# Altium schematic symbol library dvrk-s-pwm.SCHLIB: 50 symbols
Pins are listed as number, name and electrical type; pins without a type are passive.

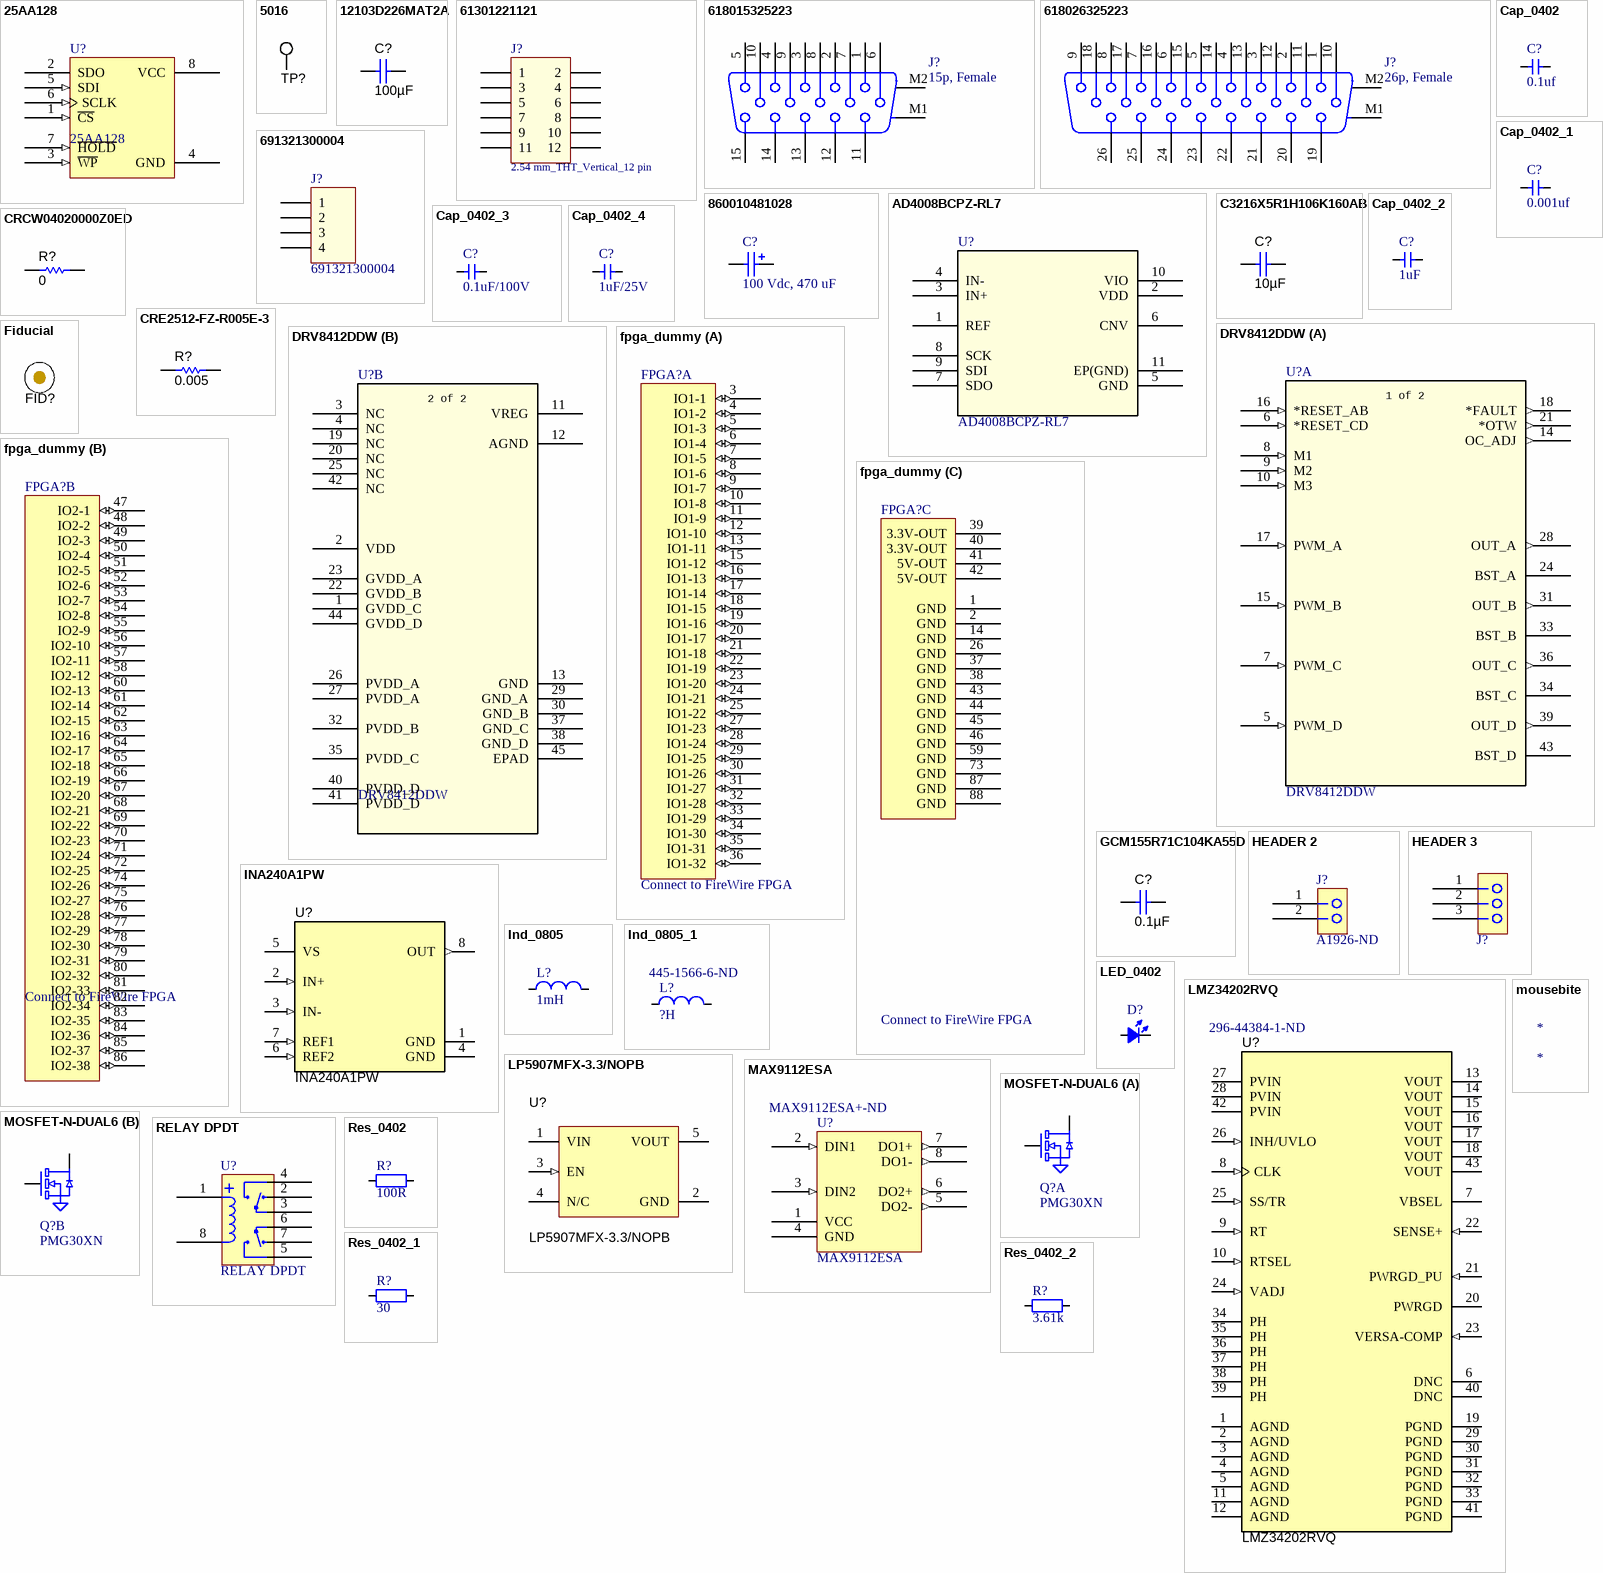
[diagram p0: symbols 25AA128 to Res_0402_2]

## 25AA128
designator U?
footprint TSSOP-8
footprint MSOP-8
pins: 1 ~{CS} (in), 2 SDO (hiz), 3 ~{WP} (in), 4 GND (power), 5 SDI (in), 6 SCLK (in), 7 ~{HOLD} (in), 8 VCC (power)
1 alternate drawing of the same symbol

## 5016
designator TP?  (value not drawn)
Test Point, Compact, SMT; Manufacturer: Keystone; CompType: Test Point Loop; SymbolVersion: 2008-04-04; PartNumber: 5016; PackageReference: Testpoint_Keystone_Compact; RoHS: Y; MountType: SMT; ComponentLink1Description: Datasheet URL; ComponentLink1URL: http://www.keyelco.com/userAssets/store/files/5016.PDF; Publisher: Texas Instruments; LatestRevisionDate: 2016-09-14; Supplier 1: Digi-Key; Supplier Part Number 1: 36-5016TR-ND; Supplier 2: Mouser; Supplier Part Number 2: 534-5016
footprint Testpoint_Keystone_Compact
pins: 1

## 12103D226MAT2A
designator C?, comment ValueDisplayed: 100µF  (hidden comment: GRM32ER61A107ME20K)
CAP CER 100UF 10V X5R 1210; Manufacturer: AVX; Polarized: N; CompType: Capacitor; Value: 22uF; U/M: EA; Cap_F: 0.000022; Tolerance_%: 20; Value1: Unknown; VDC_V: 25; Value2: 25V; TaMin_C: -55; TaMax_C: 85; Cap_Case: 1210; SizeArea_mm2: 8; SizeAreaWB_mm2: 14.7; SizeX_mm: 3.2; SizeY_mm: 2.5; SizeZ_mm: 2.8; AEC Category: Q200; SymbolVersion: 2008-07-09; PartNumber: GRM32ER61A107ME20K; PackageReference: 1210; RoHS: Y; MountType: SMT; Technology: Ceramic; TempCo: X5R; Published: 2008-06-19; Publisher: Texas Instruments; LatestRevisionDate: 2016-12-20; ComponentLink1Description: Datasheet link; ComponentLink1URL: http://datasheets.avx.com/cx5r.pdf; Supplier 1: Mouser; Supplier Part Number 1: 581-12103D226MAT2A; Supplier 2: Farnell; Supplier Part Number 2: 1833830; Supplier 3: Newark; Supplier Part Number 3: 96M1536; AEC Qualified: N; AEC Grade: N/A
signal-integrity model Cap
simulation model Cap
footprint 1210_280 (SMD, 2-Leads, Body 3.6x2.8mm, Height 2.8mm)
pins: 1, 2

## 61301221121
designator J?, comment 2.54 mm_THT_Vertical_12 pin
Pin Header WR-PHD, pitch 2.54 mm, THT, Vertical, dual row, 12 pin; Part Number: 61301221121; Rated Current: 3 A; Pin Number: 12; Pitch: 2.54 mm; Working Voltage: 250 VAC; Contact Resistance: 20 mOhm; Insulation Resistance: >1000 MOhm; ComponentLink1Description: Manufacturer; ComponentLink1URL: http://www.we-online.de; ComponentLink2Description: Datasheet; ComponentLink2URL: http://katalog.we-online.de/em/datasheet/6130xx21121.pdf; Published Date: Jan. 2018; Publisher: Wurth Elektronik; Operating Temperature: -40 to 105 degC; Mounting Technology: THT; Row Number: Dual; Orientation: Vertical
footprint 61301221121
pins: 1, 2, 3, 4, 5, 6, 7, 8, 9, 10, 11, 12

## 618015325223
designator J?, comment 15p, Female
WR-DSUB Female High Density Angled PCB Connector without Hex Screw, 15p; PartNumber: 618015325223; PinNumber: 15; Published: June 2016; Publisher: Wurth Elektronik; ComponentLink1Description: Manufacturer; ComponentLink1URL: http://www.we-online.de; ComponentLink2Description: Datasheet; ComponentLink2URL: http://katalog.we-online.de/em/datasheet/6180xx325223.pdf
footprint 618015325223 (15 pins, right angled with Rivet)
pins: 1, 2, 3, 4, 5, 6, 7, 8, 9, 10, 11, 12, 13, 14, 15, M1, M2

## 618026325223
designator J?, comment 26p, Female
WR-DSUB Female High Density Angled PCB Connector without Hex Screw, 26p; PartNumber: 618026325223; PinNumber: 26; Published: June 2016; Publisher: Wurth Elektronik; ComponentLink1Description: Manufacturer; ComponentLink1URL: http://www.we-online.de; ComponentLink2Description: Datasheet; ComponentLink2URL: http://katalog.we-online.de/em/datasheet/6180xx325223.pdf; system: connector
footprint 618026325223 (26 pins, right angled with Rivet)
pins: 1, 2, 3, 4, 5, 6, 7, 8, 9, 10, 11, 12, 13, 14, 15, 16, 17, 18, 19, 20, 21, 22, 23, 24, 25, 26, M1, M2

## 691321300004
designator J?
WR-TBL Serie 321 - 3.81 mm Vertical PCB Header, 04p; Pitch: 3.81 mm; Published Date: Jan 2017; Publisher: Wurth Elektronik; ComponentLink1Description: Manufacturer; ComponentLink1URL: http://www.we-online.de; ComponentLink2Description: Datasheet; ComponentLink2URL: http://katalog.we-online.de/em/datasheet/6913213000xx.pdf; Part Number: 691321300004; Pin Number: 04p
footprint 691321300004
pins: 1, 2, 3, 4

## 860010481028
designator C?, comment 100 Vdc, 470 uF
Aluminum Electrolytic Capacitors, 18x35.5mm; Part Number: 860010481028; Rated Voltage: 100 V; Value: 470 uF; ComponentLink1Description: Manufacturer; ComponentLink1URL: http://www.we-online.de; ComponentLink2Description: Datasheet; ComponentLink2URL: http://katalog.we-online.de/pbs/datasheet/860010481028.pdf; Published Date: Sep. 2017; Publisher: Wurth Elektronik; Size: 18x35.5mm; Life Cycle: 2000h; Operating Temperature: -40 °C up to +85 °C
footprint WCAP-ATG8_18x35.5x7.5
pins: 1 P, 2 N

## AD4008BCPZ-RL7
designator U?
16-Bit, 2 MSPS/1 MSPS/500 kSPS, / Precision, Pseudo Differential, SAR ADCs; Value: Value; Type: Type; RefDes: RefDes
footprint CP_10_9
pins: 1 REF, 2 VDD, 3 IN+, 4 IN-, 5 GND, 6 CNV, 7 SDO, 8 SCK, 9 SDI, 10 VIO, 11 EP(GND)

## C3216X5R1H106K160AB
designator C?  ValueDisplayed: 10µF  (hidden comment: C3216X5R1H106K160AB)
CAP, CERM, 10 µF, 50 V, +/- 10%, X5R, 1206; Manufacturer: TDK; Polarized: N; CompType: Capacitor; Value: 10uF; U/M: EA; Cap_F: 0.00001; Tolerance_%: 10; ESR_ohm: 0.002229; Value1: 0.002229 ohm; VDC_V: 50; Value2: 50V; IRMS_A: 4.85932; TaMin_C: -55; TaMax_C: 85; Cap_Case: 1206_180; SizeArea_mm2: 5.12; SizeAreaWB_mm2: 10.92; SizeX_mm: 3.2; SizeY_mm: 1.6; SizeZ_mm: 1.8; AEC Category: Q200; SymbolVersion: 2008-07-09; PartNumber: C3216X5R1H106K160AB; PackageReference: 1206; RoHS: Y; MountType: SMT; Technology: Ceramic; TempCo: X5R; Published: 2008-06-19; Publisher: Texas Instruments; LatestRevisionDate: 2016-12-01; ComponentLink1Description: Datasheet link; ComponentLink1URL: https://product.tdk.com/en/search/capacitor/ceramic/mlcc/info?part_no=C3216X5R1H106K160AB; Supplier 1: Digi-Key; Supplier Part Number 1: 445-5998-1-ND; Supplier 2: Mouser; Supplier Part Number 2: 810-C3216X5R1H106K160AB; AEC Qualified: N; AEC Grade: N/A
signal-integrity model Cap
simulation model Cap
footprint 1206_180
footprint 1206_180M
footprint 1206_180L
pins: 1, 2

## Cap_0402
designator C?  value 0.1uf  (hidden comment: Cap_0402)
Capacitor
footprint CAP_0402
pins: 1, 2

## Cap_0402_1
designator C?, comment value 0.001uf  (hidden comment: Cap_0402)
Capacitor
footprint CAP_0402
pins: 1, 2

## Cap_0402_2
designator C?, comment value 1uF  (hidden comment: Cap_0402)
Capacitor
footprint CAP_0402
pins: 1, 2

## Cap_0402_3
designator C?, comment value 0.1uF/100V  (hidden comment: Cap_0402)
Capacitor
footprint CAP_0402
pins: 1, 2

## Cap_0402_4
designator C?, comment value 1uF/25V  (hidden comment: Cap_0402)
Capacitor
footprint CAP_0402
pins: 1, 2

## CRCW04020000Z0ED
designator R?  ValueDisplayed: 0  (hidden comment: CRCW04020000Z0ED)
RES, 0, 5%, 0.063 W, 0402; Manufacturer: Vishay-Dale; CompType: Resistor; Value: 0; Value_Code: 0000; Tolerance_%: 5; Power_W: 0.063; Value2: 0.063W; VDC_V: 50; TempCo: 200 ppm/C; SizeArea_mm2: 0.5; SizeX_mm: 1; SizeZ_mm: 0.6; EIA_Code: E24; U/M: EA; AEC Category: Q200; SymbolVersion: 2009-05-29; PartNumber: CRCW04020000Z0ED; PackageReference: 0402; RoHS: Y; Res_ohm: 0; Value1: 5%; MountType: SMT; Technology: Thick Film; SizeY_mm: 0.5; Published: 2008-06-26; Publisher: Texas Instruments; LatestRevisionDate: 2016-07-14; ComponentLink1Description: Datasheet link; ComponentLink1URL: http://www.vishay.com/docs/20035/dcrcwe3.pdf; Supplier 1: Digi-Key; Supplier Part Number 1: 541-0.0JCT-ND; Supplier 2: Mouser; Supplier Part Number 2: 71-CRCW0402-0-E3; Supplier 3: Farnell; Supplier Part Number 3: 1469661; AEC Qualified: ?
signal-integrity model Resistor
simulation model Resistor
footprint 0402
footprint 0402M
footprint 0402L
footprint 0402S
footprint CAP_0402
footprint RES_0402
pins: 1, 2

## CRE2512-FZ-R005E-3
designator R?  ValueDisplayed: 0.005  (hidden comment: CRE2512-FZ-R005E-3)
RES, 0.005, 1%, 3 W, AEC-Q200 Grade 0, 2512; Manufacturer: Bourns; CompType: Resistor; Value: 0.005; Value_Code: 5L000; Tolerance_%: 1; Power_W: 3; Value2: 3W; TempCo: 75 ppm/C; EIA_Code: E96; U/M: EA; AEC Category: Q200; AEC Qualified: Y; AEC Grade: 0; SizeArea_mm2: 21.6075; SizeX_mm: 6.45; SizeY_mm: 3.35; SizeZ_mm: 0.9; SymbolVersion: 2009-05-29; PartNumber: CRE2512-FZ-R005E-3; PackageReference: 2512; RoHS: Y; Res_ohm: 0.005; Value1: 1%; MountType: SMT; Technology: Metal Film; Published: 2008-06-26; Publisher: Texas Instruments; LatestRevisionDate: 2016-06-02; ComponentLink1Description: Datasheet link; ComponentLink1URL: http://www.bourns.com/docs/Product-Datasheets/CRE.pdf; Supplier 1: Digi-Key; Supplier Part Number 1: CRE2512-FZ-R005E-3CT-ND; Supplier 2: Mouser; Supplier Part Number 2: 652-CRE2512FZR005E-3; Supplier 3: Farnell; Supplier Part Number 3: 2434014
signal-integrity model Resistor
simulation model Resistor
footprint CRE2512-R5_R9
pins: 1, 2

## DRV8412DDW
designator U?
Dual Full-Bridge PWM Motor Driver; Manufacturer: Texas Instruments; Built_By: EMA_UL_Team; Manufacturer_Part_Number: DRV8412DDW; Vendor: Texas Instruments; RefDes: RefDes; Type: DEV; Value: Value
footprint DDW44-7600X3850TP_N (TSOP, 44-Leads, Body 14x6.1mm, Pitch 0.635mm, Thermal Pad 8.3x4.2mm, IPC Medium Density)
footprint DDW44-7600X3850TP_M (TSOP, 44-Leads, Body 14x6.1mm, Pitch 0.635mm, Thermal Pad 8.3x4.2mm, IPC Low Density)
footprint DDW44-7600X3850TP_L (TSOP, 44-Leads, Body 14x6.1mm, Pitch 0.635mm, Thermal Pad 8.3x4.2mm, IPC High Density)
part A pins: 5 PWM_D (in), 6 *RESET_CD (in), 7 PWM_C (in), 8 M1 (in), 9 M2 (in), 10 M3 (in), 14 OC_ADJ (out), 15 PWM_B (in), 16 *RESET_AB (in), 17 PWM_A (in), 18 *FAULT (out), 21 *OTW (out), 24 BST_A (power), 28 OUT_A (out), 31 OUT_B (out), 33 BST_B (power), 34 BST_C (power), 36 OUT_C (out), 39 OUT_D (out), 43 BST_D (power)
part B pins: 1 GVDD_C (power), 2 VDD (power), 3 NC, 4 NC, 11 VREG (power), 12 AGND (power), 13 GND (power), 19 NC, 20 NC, 22 GVDD_B (power), 23 GVDD_A (power), 25 NC, 26 PVDD_A (power), 27 PVDD_A (power), 29 GND_A (power), 30 GND_B (power), 32 PVDD_B (power), 35 PVDD_C (power), 37 GND_C (power), 38 GND_D (power), 40 PVDD_D (power), 41 PVDD_D (power), 42 NC, 44 GVDD_D (power), 45 EPAD
part A text: 1 of 2
part B text: 2 of 2

## Fiducial
designator FID?  (value not drawn)
Fiducial mark.  There is nothing to buy or mount.; SymbolCreator: codlsc; SymbolVersion: 2009-11-4; CompType: Fiducial; Publisher: National Semiconductor; LatestRevisionDate: 2011-09-19; LatestRevisionNote: Added Alternate PartNumber and Alternate Manufacturer parameters to appropriate components.; ComponentLink1URL: Paste URL for datasheet here; Manufacturer: N/A; MountType: N/A; PackageReference: Fiducial; PartNumber: N/A; ClassName: FiducialMark
footprint Fiducial10-30
footprint Fiducial10-20
footprint Fiducial15-30
footprint Fiducial20-40
footprint Fiducial6.4-20
footprint Fiducial10-30_TopLayerKeepOutOnly
footprint Fiducial6.4-20_TopLayerKeepOutOnly
footprint Fiducial10-20_TopLayerKeepOutOnly
footprint Fiducial15-30_TopLayerKeepOutOnly
footprint Fiducial20-40_TopLayerKeepOutOnly

## fpga_dummy
designator FPGA?, comment Connect to FireWire FPGA
ClassName: noclearancecheck
footprint FPGA-dummy
part A pins: 3 IO1-1 (io), 4 IO1-2 (io), 5 IO1-3 (io), 6 IO1-4 (io), 7 IO1-5 (io), 8 IO1-6 (io), 9 IO1-7 (io), 10 IO1-8 (io), 11 IO1-9 (io), 12 IO1-10 (io), 13 IO1-11 (io), 15 IO1-12 (io), 16 IO1-13 (io), 17 IO1-14 (io), 18 IO1-15 (io), 19 IO1-16 (io), 20 IO1-17 (io), 21 IO1-18 (io), 22 IO1-19 (io), 23 IO1-20 (io), 24 IO1-21 (io), 25 IO1-22 (io), 27 IO1-23 (io), 28 IO1-24 (io), 29 IO1-25 (io), 30 IO1-26 (io), 31 IO1-27 (io), 32 IO1-28 (io), 33 IO1-29 (io), 34 IO1-30 (io), 35 IO1-31 (io), 36 IO1-32 (io)
part B pins: 47 IO2-1 (io), 48 IO2-2 (io), 49 IO2-3 (io), 50 IO2-4 (io), 51 IO2-5 (io), 52 IO2-6 (io), 53 IO2-7 (io), 54 IO2-8 (io), 55 IO2-9 (io), 56 IO2-10 (io), 57 IO2-11 (io), 58 IO2-12 (io), 60 IO2-13 (io), 61 IO2-14 (io), 62 IO2-15 (io), 63 IO2-16 (io), 64 IO2-17 (io), 65 IO2-18 (io), 66 IO2-19 (io), 67 IO2-20 (io), 68 IO2-21 (io), 69 IO2-22 (io), 70 IO2-23 (io), 71 IO2-24 (io), 72 IO2-25 (io), 74 IO2-26 (io), 75 IO2-27 (io), 76 IO2-28 (io), 77 IO2-29 (io), 78 IO2-30 (io), 79 IO2-31 (io), 80 IO2-32 (io), 81 IO2-33 (io), 82 IO2-34 (io), 83 IO2-35 (io), 84 IO2-36 (io), 85 IO2-37 (io), 86 IO2-38 (io)
part C pins: 1 GND (power), 2 GND (power), 14 GND (power), 26 GND (power), 37 GND (power), 38 GND (power), 39 3.3V-OUT (power), 40 3.3V-OUT (power), 41 5V-OUT (power), 42 5V-OUT (power), 43 GND (power), 44 GND (power), 45 GND (power), 46 GND (power), 59 GND (power), 73 GND (power), 87 GND (power), 88 GND (power)

## GCM155R71C104KA55D
designator C?  ValueDisplayed: 0.1µF  (hidden comment: GCM155R71C104KA55D)
CAP, CERM, 0.1 µF, 16 V, +/- 10%, X7R, 0402; Manufacturer: MuRata; Polarized: N; CompType: Capacitor; Value: 0.1uF; U/M: EA; Cap_F: 0.0000001; Tolerance_%: 10; Value1: Unknown; VDC_V: 16; Value2: 16V; TaMin_C: -55; TaMax_C: 125; Cap_Case: 0402; AEC Category: Q200; SymbolVersion: 2008-07-09; PartNumber: GCM155R71C104KA55D; PackageReference: 0402; RoHS: Y; MountType: SMT; Technology: Ceramic; TempCo: X7R; Published: 2008-06-19; Publisher: Texas Instruments; LatestRevisionDate: 2016-03-12; ComponentLink1Description: Datasheet link; ComponentLink1URL: http://psearch.murata.com/capacitor/product/GCM155R71C104KA55%23.pdf; Supplier 1: Digi-Key; Supplier Part Number 1: 490-4759-2-ND; AEC Qualified: ?
signal-integrity model Cap
simulation model Cap
footprint 0402
footprint 0402M
footprint 0402L
footprint 0402S
footprint CAP_0402
pins: 1, 2

## HEADER 2
designator J?, comment Supplier Part Number 1: A1926-ND  (hidden comment: Substitute with tyco 640457-2)
Manufacturer: TE Connectivity; system: connector; Current Rating: 5A; Voltage Rating: 250V; Number of Contacts: 2; Plating Thickness: 3.81um; Shrouded: No (Without); Contact Resistance: 6mR; Gender: Male; Supplier 1: Digi-Key; Manufacturer Part Number: 640457-2; Stock 1: 10901; Pricing 1: 1=0.14, 10=0.127, 100=0.0783, 500=0.06482, 1000=0.05672, 5000=0.04862, 10000=0.04727 (USD); Mount: Through Hole; Colour: White,Natural,Beige; Contact Plating: Tin; Min Operating Temperature: -67°C; Max Operating Temperature: 221°C; Packaging: Bulk; Fastening Type: Friction; Contact Gender: Male; Termination: Solder; Orientation: Right Angle; Contact Current Rating: 5A; Max Voltage Rating (AC): 250V; Contact Mating Length: 0.295inch; Termination Post Length: 3.56mm; Depth: 11.04mm; Radiation Hardening: No; Flammability Rating: UL94 V-0; ELV: Compliant; Lead Free: Lead Free; REACH SVHC: Unknown; ComponentLink1URL: https://datasheet.ciiva.com/709/eng-cd-640457-s2-709682.pdf; ComponentLink1Description: https://datasheet.ciiva.com/709/eng-cd-640457-s2-709682.pdf; ComponentLink2URL: https://datasheet.ciiva.com/14640/70083657-14640359.pdf; ComponentLink2Description: https://datasheet.ciiva.com/14640/70083657-14640359.pdf; ComponentLink3URL: https://datasheet.ciiva.com/3118/eng-ds-82056-mta-0608-3118505.pdf; ComponentLink3Description: https://datasheet.ciiva.com/3118/eng-ds-82056-mta-0608-3118505.pdf; ComponentLink4URL: https://datasheet.ciiva.com/11750/0900766b806a960f-11750281.pdf; ComponentLink4Description: https://datasheet.ciiva.com/11750/0900766b806a960f-11750281.pdf; ComponentLink5URL: https://datasheet.ciiva.com/30192/8852eng-ds-82056-mta-0608-30192537.pdf; ComponentLink5Description: https://datasheet.ciiva.com/30192/8852eng-ds-82056-mta-0608-30192537.pdf; ComponentLink6URL: https://datasheet.ciiva.com/16395/eng-ds-82056-mta-0608-16395963.pdf; ComponentLink6Description: https://datasheet.ciiva.com/16395/eng-ds-82056-mta-0608-16395963.pdf; ComponentLink7URL: https://datasheet.ciiva.com/25618/0900766b80e9e25b-25618125.pdf; ComponentLink7Description: https://datasheet.ciiva.com/25618/0900766b80e9e25b-25618125.pdf; ComponentLink8URL: https://datasheet.ciiva.com/16505/eng-ds-82056-mta-0608-16505423.pdf; ComponentLink8Description: https://datasheet.ciiva.com/16505/eng-ds-82056-mta-0608-16505423.pdf; ComponentLink9URL: https://datasheet.ciiva.com/16656/eng-ds-82056-mta-0608-16656527.pdf; ComponentLink9Description: https://datasheet.ciiva.com/16656/eng-ds-82056-mta-0608-16656527.pdf
footprint HDR-2x1-100 (Footprint not found)
pins: 1, 2

## HEADER 3
designator J?  (value not drawn)
footprint HDR-3x1-100 (Footprint not found)
pins: 1, 2, 3

## INA240A1PW
designator U?
Wide Common-Mode Range, Voltage Output, High or Low-Side Bi-Directional Zero-Drift Current Shunt Monitor, PW0008A; Manufacturer: Texas Instruments; SymbolCreator: Altium; CompType: IC; U/M: EA; SymbolVersion: 2016-01-07; PartNumber: INA240A1PW; PackageReference: PW0008A; MountType: SMT; ComponentLink1Description: Datasheet Link; ComponentLink1URL: https://sps06.itg.ti.com/sites/KMS/crossdivteams/altium/docs/ComponentDatasheets/INA240 Prelim DS - 9-15-15.pdf; Publisher: Texas Instruments; LatestRevisionDate: 2016-03-14; Alternate Manufacturer: Texas Instruments
footprint PW0008A_N (SOP, 8-Leads, Body 4.5x3.1mm, Pitch 0.65mm, IPC Medium Density)
footprint PW0008A_M
footprint PW0008A_L
pins: 1 GND (power), 2 IN+ (in), 3 IN- (in), 4 GND (power), 5 VS (power), 6 REF2 (in), 7 REF1 (in), 8 OUT (out)

## Ind_0805
designator L?  value 1mH
Inductor
footprint 2300LL
pins: 1, 2

## Ind_0805_1
designator L?, comment value ?H  Supplier Part Number 1: 445-1566-6-ND  (hidden comment: Ind_0805)
Inductor; Manufacturer: TDK; Manufacturer Part Number: MPZ2012S300AT000; Core Material: Ferrite; Impedance: 30R; Current Rating: 6A; DC Resistance (DCR): 10mR; Supplier 1: Digi-Key; Stock 1: 117704; Pricing 1: 1=0.11, 10=0.091, 25=0.0704, 50=0.0584, 100=0.0503, 250=0.04028, 500=0.03624, 1000=0.0302 (USD); Mount: Surface Mount; Case/Package: 0805; Number of Pins: 3; Case Code (Metric): 2012; Case Code (Imperial): 0805; Packaging: Tape and Reel; Package Quantity: 1; Max DC Current: 6A; Length: 0.079inch; Height: 0.041inch; Width: 0.049inch; Depth: 1.25mm; REACH SVHC: No SVHC; Lead Free: Lead Free; ComponentLink1URL: https://datasheet.ciiva.com/46381/1750041-46381644.pdf; ComponentLink1Description: https://datasheet.ciiva.com/46381/1750041-46381644.pdf; ComponentLink2URL: https://datasheet.ciiva.com/48682/beads-commercial-power-mpz-en-48682508.pdf; ComponentLink2Description: https://datasheet.ciiva.com/48682/beads-commercial-power-mpz-en-48682508.pdf; ComponentLink3URL: https://datasheet.ciiva.com/8077/55169-8077085.pdf; ComponentLink3Description: https://datasheet.ciiva.com/8077/55169-8077085.pdf; ComponentLink4URL: https://datasheet.ciiva.com/8077/55169-8077086.pdf; ComponentLink4Description: https://datasheet.ciiva.com/8077/55169-8077086.pdf; ComponentLink5URL: https://datasheet.ciiva.com/46634/beads-commercial-power-mpz-en-46634590.pdf; ComponentLink5Description: https://datasheet.ciiva.com/46634/beads-commercial-power-mpz-en-46634590.pdf; ComponentLink6URL: https://datasheet.ciiva.com/46634/beads-commercial-power-mpz-en-46634367.pdf; ComponentLink6Description: https://datasheet.ciiva.com/46634/beads-commercial-power-mpz-en-46634367.pdf
footprint IND_0805
pins: 1, 2

## LED_0402
designator D?  (value not drawn)
LED
footprint LED_0402_RED
footprint LED_0402_BLUE
footprint LED_0402_ORANGE
footprint LED_0402_YELLOW
footprint LED_0402_GREEN
pins: 1 A, 2 K

## LMZ34202RVQ
designator U?  Supplier Part Number 1: 296-44384-1-ND
SIMPLE SWITCHER 4.5-V to 42-V Input, 2-A Power Module, RVQ00043A (B3QFN-43); Manufacturer: Texas Instruments; Manufacturer Part Number: LMZ34202RVQT; SymbolCreator: Altium; SizeArea_mm2: 100; SizeAreaWB_mm2: 144; SizeX_mm: 10; SizeZ_mm: 4.4; CompType: IC; U/M: EA; Number of Outputs: 1; Min Input Voltage: 4.5V; Max Input Voltage: 42V; Voltage - Output 1: 7.5V; Max Output Current: 2A; Efficiency: 92%; SymbolVersion: 2015-09-17; PartNumber: LMZ34202RVQ; PackageReference: RVQ0043A; PackageDescription: B3QFN-43; MountType: SMT; SizeY_mm: 10; ComponentLink1Description: Datasheet Link; ComponentLink1URL: https://sps06.itg.ti.com/sites/KMS/crossdivteams/altium/docs/ComponentDatasheets/lmz34202word.pdf; Publisher: Texas Instruments; LatestRevisionDate: 2016-12-29; Alternate Manufacturer: Texas Instruments; Supplier 1: Digi-Key; Stock 1: 1340; Pricing 1: 1=8.39, 5=8.27, 10=8.151, 25=7.9112, 50=7.6714, 100=7.4317 (USD); Mount: Surface Mount; Case/Package: QFN; Number of Pins: 43; Min Operating Temperature: -40°C; Max Operating Temperature: 105°C; Packaging: Cut Tape; Features: UVLO; Length: 0.39inch; Height: 0.17inch; Width: 0.39inch; Lead Free: Lead Free; REACH SVHC: No SVHC; ComponentLink2URL: http://www.ti.com/lit/ds/symlink/lmz34202.pdf; ComponentLink2Description: http://www.ti.com/lit/ds/symlink/lmz34202.pdf; ComponentLink3URL: http://www.ti.com/general/docs/lit/getliterature.tsp?genericPartNumber=LMZ34202&&fileType=pdf; ComponentLink3Description: http://www.ti.com/general/docs/lit/getliterature.tsp?genericPartNumber=LMZ34202&&fileType=pdf
footprint RVQ0043A
footprint RVQ0043A_NV
pins: 1 AGND (power), 2 AGND (power), 3 AGND (power), 4 AGND (power), 5 AGND (power), 6 DNC, 7 VBSEL (power), 8 CLK (in), 9 RT (in), 10 RTSEL (in), 11 AGND (power), 12 AGND (power), 13 VOUT (power), 14 VOUT (power), 15 VOUT (power), 16 VOUT (power), 17 VOUT (power), 18 VOUT (power), 19 PGND (power), 20 PWRGD (oc), 21 PWRGD_PU (in), 22 SENSE+ (in), 23 VERSA-COMP (in), 24 VADJ (in), 25 SS/TR (in), 26 INH/UVLO (in), 27 PVIN (power), 28 PVIN (power), 29 PGND (power), 30 PGND (power), 31 PGND (power), 32 PGND (power), 33 PGND (power), 34 PH (power), 35 PH (power), 36 PH (power), 37 PH (power), 38 PH (power), 39 PH (power), 40 DNC, 41 PGND (power), 42 PVIN (power), 43 VOUT (power)
1 alternate drawing of the same symbol

## LP5907MFX-3.3/NOPB
designator U?
ULTRA LOW-NOISE, 250-mA LINEAR REGULATOR FOR RF AND ANALOG CIRCUITS REQUIRES NO BYPASS CAPACITOR, DBV0005A; Manufacturer: Texas Instruments; SymbolCreator: a0799628; SizeArea_mm2: 8.12; SizeAreaWB_mm2: 14.82; SizeX_mm: 2.8; SizeY_mm: 2.9; SizeZ_mm: 1.45; CompType: IC; U/M: EA; SymbolVersion: 2014-03-21; PartNumber: LP5907MFX-3.3/NOPB; PackageReference: DBV0005A; PackageDescription: SOT-5; MountType: SMT; ComponentLink1Description: Datasheet Link; ComponentLink1URL: http://www.ti.com/lit/ds/symlink/lp5907.pdf; RoHS: Y; Publisher: Texas Instruments; LatestRevisionDate: 2016-09-20; Alternate Manufacturer: Texas Instruments
footprint DBV0005A_N
footprint DBV0005A_M
footprint DBV0005A_L
pins: 1 VIN (power), 2 GND (power), 3 EN (in), 4 N/C, 5 VOUT (power)
1 alternate drawing of the same symbol

## MAX9112ESA
designator U?  Supplier Part Number 1: MAX9112ESA+-ND
lvds tx; Manufacturer: Maxim; Manufacturer Part Number: MAX9112ESA+; Propagation Delay: 1.58ns; Operating Supply Voltage: 3.3V; Max Power Dissipation: 471mW; Data Rate: 500Mbps; Max Supply Voltage: 3.6V; Min Supply Voltage: 3V; Number of Drivers: 2; Operating Supply Current: 9.4mA; Turn-On Delay Time: 2.5ns; Max Supply Current: 13mA; Supplier 1: Digi-Key; Stock 1: 183; Pricing 1: 1=6.62, 10=6.289, 25=5.19, 50=4.9306, 250=4.77852, 500=4.31368 (USD); Mount: Surface Mount; Case/Package: SOIC; Number of Pins: 8; Weight: 0.01787oz; Min Operating Temperature: -40°C; Max Operating Temperature: 85°C; Package Quantity: 100; Packaging: Rail/Tube; Length: 5mm; Height: 1.5mm; Width: 4mm; Radiation Hardening: No; REACH SVHC: Unknown; Lead Free: Lead Free; ComponentLink1URL: https://datasheet.ciiva.com/1767/max9110-max9112-1767125.pdf; ComponentLink1Description: https://datasheet.ciiva.com/1767/max9110-max9112-1767125.pdf; ComponentLink2URL: https://datasheet.ciiva.com/4782/max9110-max9112-108570-4782517.pdf; ComponentLink2Description: https://datasheet.ciiva.com/4782/max9110-max9112-108570-4782517.pdf; ComponentLink3URL: https://datasheet.ciiva.com/16616/max9110-max9112-16616956.pdf; ComponentLink3Description: https://datasheet.ciiva.com/16616/max9110-max9112-16616956.pdf; ComponentLink4URL: https://datasheet.ciiva.com/26835/max9112esa-26835143.pdf; ComponentLink4Description: https://datasheet.ciiva.com/26835/max9112esa-26835143.pdf
footprint SOIC127P600X175-8N (SOIC, 8-Leads, Body 4.90x3.40mm, Pitch 1.27mm, IPC Medium Density)
pins: 1 VCC (power), 2 DIN1 (in), 3 DIN2 (in), 4 GND (power), 5 DO2- (out), 6 DO2+ (out), 7 DO1+ (out), 8 DO1- (out)

## MOSFET-N-DUAL6
designator Q?, comment PMG30XN
footprint SC70-6
footprint SC-70-6 (Footprint not found)
part A pins: 1 S1 hidden to GND, 2 G1, 6 D1
part B pins: 3 D2, 4 S2 hidden to GND, 5 G2
1 alternate drawing of the same symbol

## mousebite
designator *
footprint mousebite_2.5mm_5mm

## RELAY DPDT
designator U?
footprint RELAY-G6K-2P (Omron Relay: G6K-2P)
pins: 1 COIL+, 2 NC, 3 COM, 4 NO, 5 NO, 6 COM, 7 NC, 8 COIL-
1 alternate drawing of the same symbol

## Res_0402
designator R?  value 100R  (hidden comment: Res_0402)
Resistor
footprint RES_0402
pins: 1, 2

## Res_0402_1
designator R?, comment value 30  (hidden comment: Res_0402)
Resistor
footprint RES_0402
pins: 1, 2

## Res_0402_2
designator R?, comment value 3.61k  (hidden comment: Res_0402)
Resistor
footprint RES_0402
pins: 1, 2

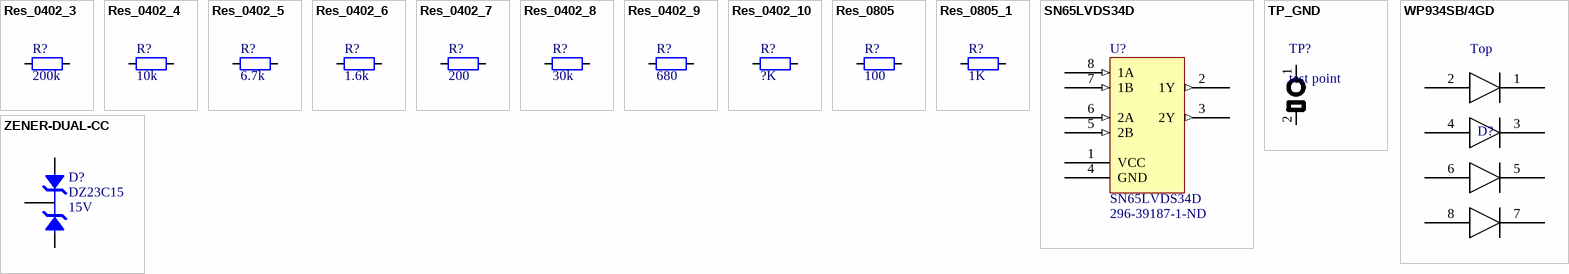
[diagram p1: symbols Res_0402_3 to ZENER-DUAL-CC]

## Res_0402_3
designator R?, comment value 200k  (hidden comment: Res_0402)
Resistor
footprint RES_0402
pins: 1, 2

## Res_0402_4
designator R?, comment value 10k  (hidden comment: Res_0402)
Resistor
footprint RES_0402
pins: 1, 2

## Res_0402_5
designator R?, comment value 6.7k  (hidden comment: Res_0402)
Resistor
footprint RES_0402
pins: 1, 2

## Res_0402_6
designator R?, comment value 1.6k  (hidden comment: Res_0402)
Resistor
footprint RES_0402
pins: 1, 2

## Res_0402_7
designator R?, comment value 200  (hidden comment: Res_0402)
Resistor
footprint RES_0402
pins: 1, 2

## Res_0402_8
designator R?, comment value 30k  (hidden comment: Res_0402)
Resistor
footprint RES_0402
pins: 1, 2

## Res_0402_9
designator R?, comment value 680  (hidden comment: Res_0402)
Resistor
footprint RES_0402
pins: 1, 2

## Res_0402_10
designator R?, comment value ?K  (hidden comment: Res_0402)
Resistor
footprint RES_0402
pins: 1, 2

## Res_0805
designator R?  value 100  (hidden comment: Res_0805)
Resistor
footprint RES_0805
pins: 1, 2

## Res_0805_1
designator R?, comment value 1K  (hidden comment: Res_0805)
Resistor
footprint RES_0805
pins: 1, 2

## SN65LVDS34D
designator U?  Supplier Part Number 1: 296-39187-1-ND
lvds rx; Manufacturer: Texas Instruments; Manufacturer Part Number: SN65LVDS34DR; Number of Receivers: 4; Operating Supply Voltage: 3.3V; Propagation Delay: 9ns; Max Power Dissipation: 950mW; Nominal Supply Current: 12mA; Max Supply Voltage: 3.6V; Min Supply Voltage: 3V; Data Rate: 400Mbps; Receiver Hysteresis: 50mV; Max Input Current: 75uA; Logic Function: Receiver; Supplier 1: Digi-Key; Stock 1: 3654; Pricing 1: 1=2.27, 10=2.042, 100=1.641, 500=1.34828, 1000=1.11714 (USD); Mount: Surface Mount; Case/Package: SOIC; Number of Pins: 8; Weight: 0.002561oz; Contact Plating: Gold; Min Operating Temperature: -40°C; Max Operating Temperature: 85°C; Packaging: Tape and Reel; Package Quantity: 2500; Number of Elements: 4; Number of Drivers: 4; Turn-On Delay Time: 9ns; Power Dissipation: 950mW; Lead Free: Lead Free; ComponentLink1URL: https://datasheet.ciiva.com/1770/sn65lvdt33-1770664.pdf; ComponentLink1Description: https://datasheet.ciiva.com/1770/sn65lvdt33-1770664.pdf; ComponentLink2URL: https://datasheet.ciiva.com/3152/sn65lvds33-3152872.pdf; ComponentLink2Description: https://datasheet.ciiva.com/3152/sn65lvds33-3152872.pdf
footprint D8_L (SOIC, 8-Leads, Body 4.9x3.9mm, Pitch 1.27mm, IPC High Density)
footprint D8_N
footprint SOIC127P600X175-8N
pins: 1 VCC (power), 2 1Y (out), 3 2Y (out), 4 GND (power), 5 2B (in), 6 2A (in), 7 1B (in), 8 1A (in)

## TP_GND
designator TP?, comment test point  (no BOM)
footprint TP_GND
pins: 1, 2 gnd

## WP934SB/4GD
designator D?
T-1 (3mm) Quad-Level Circuit Board Indicator
footprint WP934SB/4GD
pins: 1, 2, 3, 4, 5, 6, 7, 8
text: Top

## ZENER-DUAL-CC
designator D?, comment DZ23C15  Voltage: 15V
footprint SOT-23
pins: 1 A2, 2 A1, 3 A1